# EAGLE library part KEYBOARD_SOCKET (library atari)
Keyboard Socket
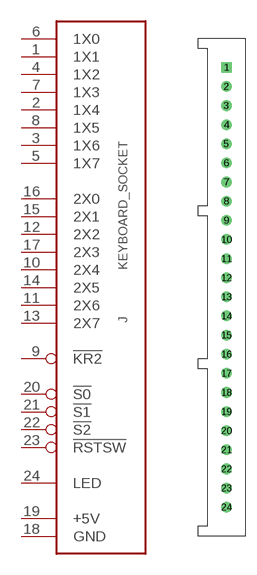
[diagram p28: symbol with the pads of KEYBOARD_SOCKET; footprint KEYBOARD_SOCKET]

Designator prefix J

## KEYBOARD_SOCKET  [KEYBOARD_SOCKET]
1  1X1  in
2  1X4  in
3  1X6  in
4  1X2  in
5  1X7  in
6  1X0  in
7  1X3  in
8  1X5  in
9  !KR2  out
10  2X4  in
11  2X6  in
12  2X2  in
13  2X7  in
14  2X5  in
15  2X1  in
16  2X0  in
17  2X3  in
18  GND  pwr
19  +5V  pwr
20  !S0  out
21  !S1  out
22  !S2  out
23  !RSTSW  out
24  LED  in

## Footprint KEYBOARD_SOCKET (pad centres in mm)
Keyboard Socket
drill 0.9 square: 1 0,29.21
drill 0.9 round: 2 0,26.67; 3 0,24.13; 4 0,21.59; 5 0,19.05; 6 0,16.51; 7 0,13.97; 8 0,11.43; 9 0,8.89; 10 0,6.35; 11 0,3.81; 12 0,1.27; 13 0,-1.27; 14 0,-3.81; 15 0,-6.35; 16 0,-8.89; 17 0,-11.43; 18 0,-13.97; 19 0,-16.51; 20 0,-19.05; 21 0,-21.59; 22 0,-24.13; 23 0,-26.67; 24 0,-29.21